# Altium schematic symbol library dsPIC33EP512MU814.SchLib: 1 symbol
Pins are listed as number, name and electrical type; pins without a type are passive.

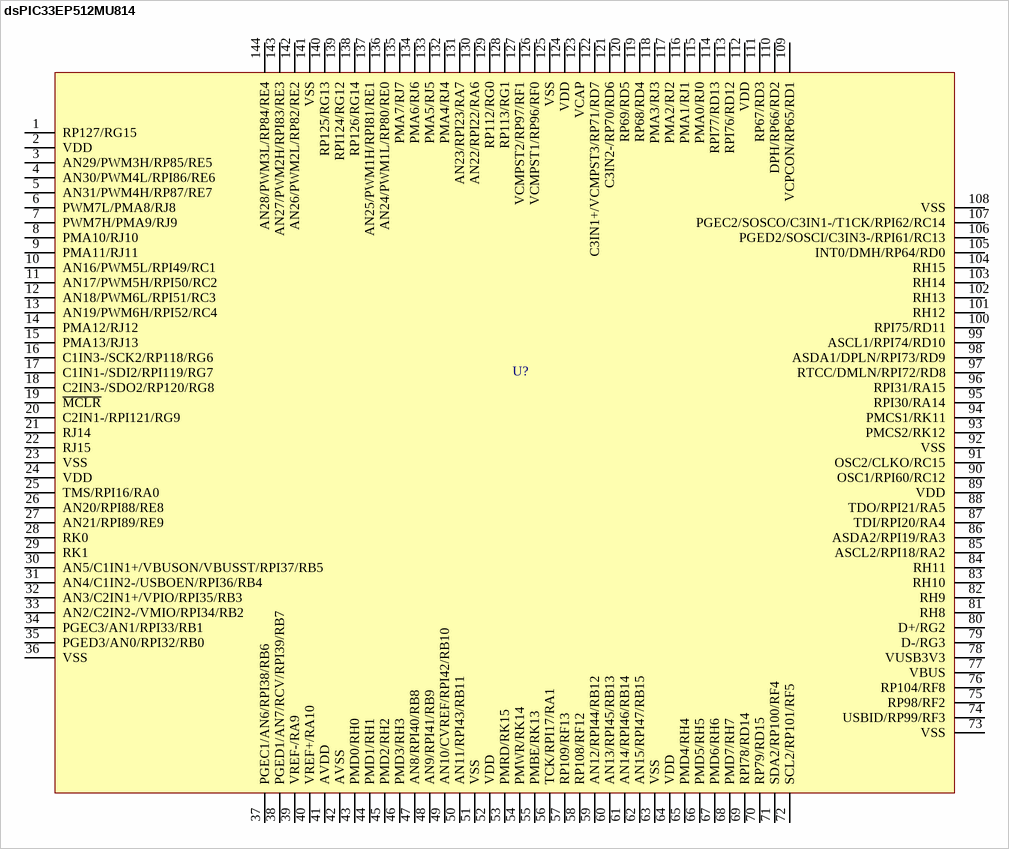
[diagram p0: symbol dsPIC33EP512MU814]

## dsPIC33EP512MU814
designator U?  (value not drawn)
pins: 1 RP127/RG15, 2 VDD, 3 AN29/PWM3H/RP85/RE5, 4 AN30/PWM4L/RPI86/RE6, 5 AN31/PWM4H/RP87/RE7, 6 PWM7L/PMA8/RJ8, 7 PWM7H/PMA9/RJ9, 8 PMA10/RJ10, 9 PMA11/RJ11, 10 AN16/PWM5L/RPI49/RC1, 11 AN17/PWM5H/RPI50/RC2, 12 AN18/PWM6L/RPI51/RC3, 13 AN19/PWM6H/RPI52/RC4, 14 PMA12/RJ12, 15 PMA13/RJ13, 16 C1IN3-/SCK2/RP118/RG6, 17 C1IN1-/SDI2/RPI119/RG7, 18 C2IN3-/SDO2/RP120/RG8, 19 ~{MCLR}, 20 C2IN1-/RPI121/RG9, 21 RJ14, 22 RJ15, 23 VSS, 24 VDD, 25 TMS/RPI16/RA0, 26 AN20/RPI88/RE8, 27 AN21/RPI89/RE9, 28 RK0, 29 RK1, 30 AN5/C1IN1+/VBUSON/VBUSST/RPI37/RB5, 31 AN4/C1IN2-/USBOEN/RPI36/RB4, 32 AN3/C2IN1+/VPIO/RPI35/RB3, 33 AN2/C2IN2-/VMIO/RPI34/RB2, 34 PGEC3/AN1/RPI33/RB1, 35 PGED3/AN0/RPI32/RB0, 36 VSS, 37 PGEC1/AN6/RPI38/RB6, 38 PGED1/AN7/RCV/RPI39/RB7, 39 VREF-/RA9, 40 VREF+/RA10, 41 AVDD, 42 AVSS, 43 PMD0/RH0, 44 PMD1/RH1, 45 PMD2/RH2, 46 PMD3/RH3, 47 AN8/RPI40/RB8, 48 AN9/RPI41/RB9, 49 AN10/CVREF/RPI42/RB10, 50 AN11/RPI43/RB11, 51 VSS, 52 VDD, 53 PMRD/RK15, 54 PMWR/RK14, 55 PMBE/RK13, 56 TCK/RPI17/RA1, 57 RP109/RF13, 58 RP108/RF12, 59 AN12/RPI44/RB12, 60 AN13/RPI45/RB13, 61 AN14/RPI46/RB14, 62 AN15/RPI47/RB15, 63 VSS, 64 VDD, 65 PMD4/RH4, 66 PMD5/RH5, 67 PMD6/RH6, 68 PMD7/RH7, 69 RPI78/RD14, 70 RP79/RD15, 71 SDA2/RP100/RF4, 72 SCL2/RP101/RF5, 73 VSS, 74 USBID/RP99/RF3, 75 RP98/RF2, 76 RP104/RF8, 77 VBUS, 78 VUSB3V3, 79 D-/RG3, 80 D+/RG2, 81 RH8, 82 RH9, 83 RH10, 84 RH11, 85 ASCL2/RPI18/RA2, 86 ASDA2/RPI19/RA3, 87 TDI/RPI20/RA4, 88 TDO/RPI21/RA5, 89 VDD, 90 OSC1/RPI60/RC12, 91 OSC2/CLKO/RC15, 92 VSS, 93 PMCS2/RK12, 94 PMCS1/RK11, 95 RPI30/RA14, 96 RPI31/RA15, 97 RTCC/DMLN/RPI72/RD8, 98 ASDA1/DPLN/RPI73/RD9, 99 ASCL1/RPI74/RD10, 100 RPI75/RD11, 101 RH12, 102 RH13, 103 RH14, 104 RH15, 105 INT0/DMH/RP64/RD0, 106 PGED2/SOSCI/C3IN3-/RPI61/RC13, 107 PGEC2/SOSCO/C3IN1-/T1CK/RPI62/RC14, 108 VSS, 109 VCPCON/RP65/RD1, 110 DPH/RP66/RD2, 111 RP67/RD3, 112 VDD, 113 RPI76/RD12, 114 RPI77/RD13, 115 PMA0/RJ0, 116 PMA1/RJ1, 117 PMA2/RJ2, 118 PMA3/RJ3, 119 RP68/RD4, 120 RP69/RD5, 121 C3IN2-/RP70/RD6, 122 C3IN1+/VCMPST3/RP71/RD7, 123 VCAP, 124 VDD, 125 VSS, 126 VCMPST1/RP96/RF0, 127 VCMPST2/RP97/RF1, 128 RP113/RG1, 129 RP112/RG0, 130 AN22/RPI22/RA6, 131 AN23/RPI23/RA7, 132 PMA4/RJ4, 133 PMA5/RJ5, 134 PMA6/RJ6, 135 PMA7/RJ7, 136 AN24/PWM1L/RP80/RE0, 137 AN25/PWM1H/RPI81/RE1, 138 RP126/RG14, 139 RPI124/RG12, 140 RP125/RG13, 141 VSS, 142 AN26/PWM2L/RP82/RE2, 143 AN27/PWM2H/RPI83/RE3, 144 AN28/PWM3L/RP84/RE4
1 alternate drawing of the same symbol